# Altium footprint library Passive.PcbLib: 41 footprints (part 1 of 3)
Each footprint in its own frame and in the unit in brackets; x right, y up, seen from the top. Pads: shape width x height; smd on the part's side, far side on the other; paste and mask are expansions set on the pad; w line width, h text height; cw(c..) or ccw(c..) is an arc to the next point about the centre after c.
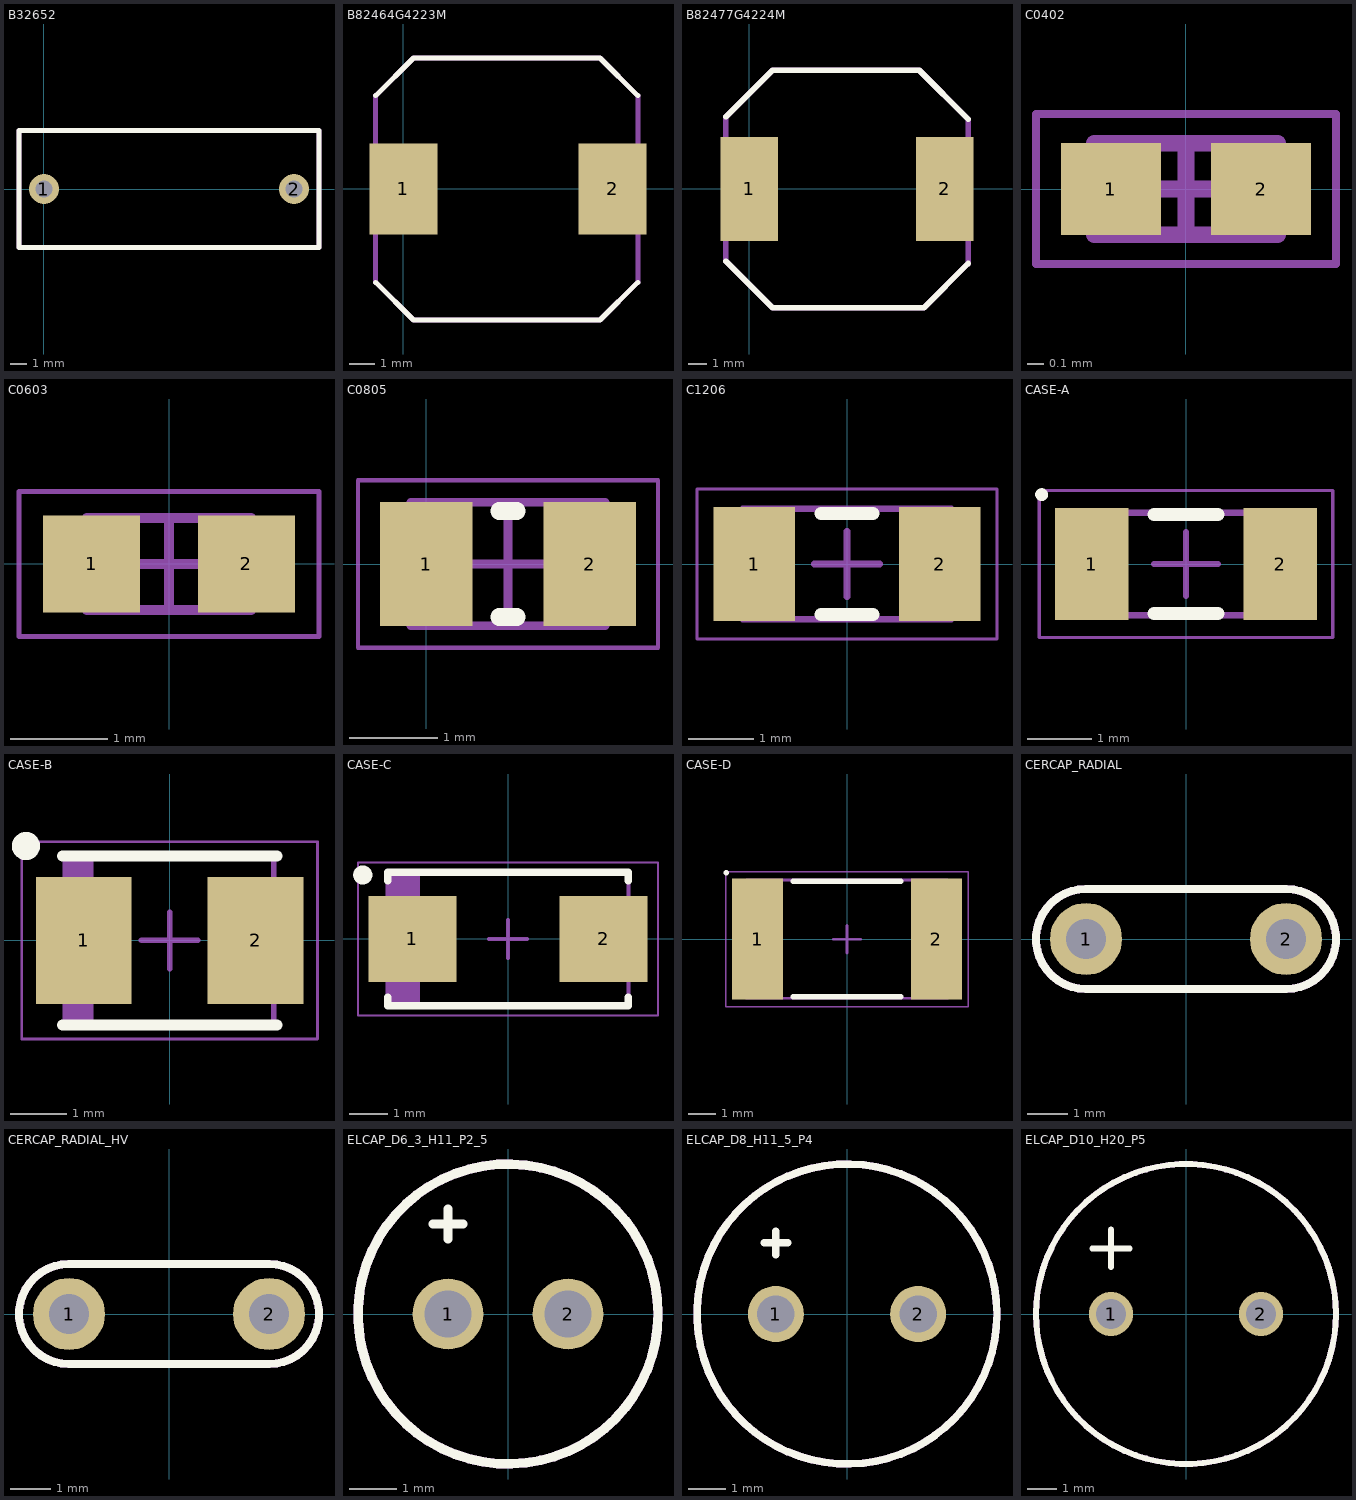
[diagram p0: the footprints below, top view; thin cyan lines are the x and y axes]

## B32652 [mm]
pads (2):
  round 1.8 hole 1: 1(0,0) 2(15,0)
Top Overlay:
  lines w0.3: -1.5,-3.5 -1.5,3.5 16.5,3.5 16.5,-3.5 -1.5,-3.5
TopAssy:
  lines w0.3: -1.5,-3.5 16.5,-3.5 16.5,3.5 -1.5,3.5 -1.5,-3.5
3D body "User Library-B32652A_5x10_5x18.step": height 10.6, standoff -2.9, extent -1.6,-2.5 16.4,2.5

## B82464G4223M [mm]
pads (2):
  rect 2.7x3.6 smd: 1(0,0) 2(8.3,0)
Top Overlay:
  lines w0.2: -1.1,-3.7 0.4,-5.2 7.8,-5.2 9.3,-3.7 ; -1.1,3.7 0.4,5.2 7.8,5.2 9.3,3.7
TopAssy:
  lines w0.2: -1.1,-3.7 0.4,-5.2 7.8,-5.2 9.3,-3.7 9.3,3.7 7.8,5.2 0.4,5.2 -1.1,3.7 -1.1,-3.7
3D body "User Library-B82464G4.step": height 4.81, standoff 0, extent -1.1,-5.2 9.3,5.2

## B82477G4224M [mm]
pads (2):
  rect 3.1x5.6 smd: 1(0,0) 2(10.5,0)
Top Overlay:
  lines w0.3: -1.25,-3.875 1.25,-6.375 9.375,-6.375 11.75,-4 ; -1.25,3.875 1.25,6.375 9.125,6.375 11.75,3.75
TopAssy:
  lines w0.3: -1.25,-3.875 1.25,-6.375 9.375,-6.375 11.75,-4 11.75,3.75 9.125,6.375 1.25,6.375 -1.25,3.875 -1.25,-3.875
3D body "User Library-b82477g4.step": height 8, standoff 0, extent -1.3,-6.4 11.5,6.4

## C0402 [mm]
height 0.4
pads (2):
  rect 0.6x0.55 smd: 1(-0.45,0) 2(0.45,0)
TopAssy:
  lines w0.1: -0.55,-0.275 -0.55,0.275 0.55,0.275 0.55,-0.275 -0.55,-0.275
Mechanical 15:
  lines w0.05: -0.9,-0.45 -0.9,0.45 0.9,0.45 0.9,-0.45 -0.9,-0.45
  lines w0.1: -0.275,0 0.275,0 ; 0,-0.275 0,0.275
3D body: height 0.4, standoff 0, extent -0.35,-0.275 0.35,0.275
3D body: height 0.4, standoff 0, extent -0.55,-0.275 -0.35,0.275
3D body: height 0.4, standoff 0, extent 0.35,-0.275 0.55,0.275

## C0603 [mm]
height 0.5
pads (2):
  rect 1x1 smd: 1(-0.8,0) 2(0.8,0)
TopAssy:
  lines w0.1: -0.85,-0.475 0.85,-0.475 0.85,0.475 -0.85,0.475 -0.85,-0.475
Mechanical 15:
  lines w0.05: -1.55,-0.75 1.55,-0.75 1.55,0.75 -1.55,0.75 -1.55,-0.75
  lines w0.1: -0.475,0 0.475,0 ; 0,-0.475 0,0.475
3D body: height 0.5, standoff 0, extent 0.55,-0.475 0.85,0.475
3D body: height 0.5, standoff 0, extent -0.85,-0.475 -0.55,0.475
3D body: height 0.5, standoff 0, extent -0.55,-0.475 0.55,0.475

## C0805 [mm]
pads (2):
  rect 1.05x1.4 smd: 1(0,0) 2(1.85,0)
Top Overlay:
  lines w0.2: 0.825,-0.6 1.025,-0.6 ; 0.825,0.6 1.025,0.6
TopAssy:
  lines w0.1: -0.175,-0.7 2.025,-0.7 2.025,0.7 -0.175,0.7 -0.175,-0.7
Mechanical 15:
  lines w0.05: -0.775,-0.95 2.625,-0.95 2.625,0.95 -0.775,0.95 -0.775,-0.95
  lines w0.1: 0.425,0 1.425,0 ; 0.925,-0.5 0.925,0.5
3D body "SW3dPS-0805 SMD Capacitor.STEP": height 0.78, standoff 0, extent -0.05,-0.625 1.95,0.625

## C1206 [mm]
height 0.6
pads (2):
  rect 1.25x1.75 smd: 1(-1.425,0) 2(1.425,0)
Top Overlay:
  lines w0.2: -0.4,-0.775 0.4,-0.775 ; -0.4,0.775 0.4,0.775
TopAssy:
  lines w0.1: -1.6,-0.85 -1.6,0.85 1.6,0.85 1.6,-0.85 -1.6,-0.85
Mechanical 15:
  lines w0.05: -2.3,-1.15 -2.3,1.15 2.3,1.15 2.3,-1.15 -2.3,-1.15
  lines w0.1: -0.5,0 0.5,0 ; 0,-0.5 0,0.5
3D body: height 0.6, standoff 0, extent -1.6,-0.85 -1.1,0.85
3D body: height 0.6, standoff 0, extent 1.1,-0.85 1.6,0.85
3D body: height 0.6, standoff 0, extent -1.1,-0.85 1.1,0.85

## CASE-A [mm] "Танталовый, тип А"
height 0.6
pads (2):
  rect 1.15x1.75 smd: 1(-1.475,0) 2(1.475,0)
Top Overlay:
  circle w0.1: c-2.262,1.087 r0.05
  lines w0.2: -0.5,-0.775 0.5,-0.775 ; -0.5,0.775 0.5,0.775
TopAssy:
  lines w0.1: -1.6,-0.8 -1.6,0.8 1.6,0.8 1.6,-0.8 -1.6,-0.8
Mechanical 15:
  lines w0.05: -2.3,-1.15 -2.3,1.15 2.3,1.15 2.3,-1.15 -2.3,-1.15
  lines w0.1: -0.5,0 0.5,0 ; 0,-0.5 0,0.5
3D body: height 0.6, standoff 0, extent -1.6,-0.8 -1.1,0.8
3D body: height 0.6, standoff 0, extent 1.1,-0.8 1.6,0.8
3D body: height 0.6, standoff 0, extent -1.1,-0.8 1.1,0.8

## CASE-B [mm] "Molded Capacitor, 2-Leads, Body 3,60x2,90mm, IPC Medium Density"
height 2
pads (2):
  rect 1.7x2.25 smd: 1(-1.525,0) 2(1.525,0)
Top Overlay:
  circle w0.25: c-2.55,1.675 r0.125
  lines w0.2: -1.9,-1.5 1.9,-1.5 ; -1.9,1.5 1.9,1.5
TopAssy:
  rectangle: -1.85,-1.5 -1.352,1.5
  lines w0.1: -1.85,-1.5 1.85,-1.5 1.85,1.5 -1.85,1.5 -1.85,-1.5
Mechanical 15:
  lines w0.05: -2.625,-1.75 2.625,-1.75 2.625,1.75 -2.625,1.75 -2.625,-1.75
  lines w0.1: -0.5,0 0.5,0 ; 0,-0.5 0,0.5
3D body "CHIP_TANT_B.step": height 2, standoff 0, extent -2.07,-1.5 2.07,1.5

## CASE-C [mm]
height 2.5
pads (2):
  rect 2.3x2.25 smd: 1(-2.5,0) 2(2.5,0)
Top Overlay:
  circle w0.25: c-3.8,1.675 r0.125
  lines w0.2: -3.15,-1.525 -3.15,-1.75 3.15,-1.75 3.15,-1.525 ; -3.15,1.525 -3.15,1.75 3.15,1.75 3.15,1.525
TopAssy:
  rectangle: -3.15,-1.75 -2.303,1.75
  lines w0.1: -3.15,-1.75 3.15,-1.75 3.15,1.75 -3.15,1.75 -3.15,-1.75
Mechanical 15:
  lines w0.05: -3.925,-2 3.925,-2 3.925,2 -3.925,2 -3.925,-2
  lines w0.1: -0.5,0 0.5,0 ; 0,-0.5 0,0.5
3D body "CHIP_TANT_C.step": height 2.5, standoff 0, extent -3.37,-1.75 3.37,1.75

## CASE-D [mm]
height 2.8
pads (2):
  rect 1.85x4.4 smd: 1(-3.25,0) 2(3.25,0)
Top Overlay:
  circle w0.1: c-4.387,2.412 r0.05
  lines w0.2: -1.95,-2.1 1.95,-2.1 ; -1.95,2.1 1.95,2.1
TopAssy:
  lines w0.1: -3.65,-2.15 -3.65,2.15 3.65,2.15 3.65,-2.15 -3.65,-2.15
Mechanical 15:
  lines w0.05: -4.4,-2.45 -4.4,2.45 4.4,2.45 4.4,-2.45 -4.4,-2.45
  lines w0.1: -0.5,0 0.5,0 ; 0,-0.5 0,0.5
3D body: height 2.8, standoff 0, extent -3.65,-2.15 -2.35,2.15
3D body: height 2.8, standoff 0, extent 2.35,-2.15 3.65,2.15
3D body: height 2.8, standoff 0, extent -2.35,-2.15 2.35,2.15

## CERCAP_RADIAL [mm]
pads (2):
  round 1.8 hole 1: 1(-2.5,0) 2(2.5,0)
Top Overlay:
  lines w0.2: -2.5,-1.25 cw(c-2.5,0) -2.5,1.25 2.5,1.25 cw(c2.5,0) 2.5,-1.25 -2.5,-1.25
TopAssy:
  lines w0.2: -2.5,-1.25 cw(c-2.5,0) -2.5,1.25 2.5,1.25 cw(c2.5,0) 2.5,-1.25 -2.5,-1.25
3D body "Деталь1.STEP": height 6.61, standoff -2.49, extent -2.795,-1.34 2.795,1.2

## CERCAP_RADIAL_HV [mm]
pads (2):
  round 1.8 hole 1: 1(-2.5,0) 2(2.5,0)
Top Overlay:
  lines w0.2: -2.5,-1.25 cw(c-2.5,0) -2.5,1.25 2.5,1.25 cw(c2.5,0) 2.5,-1.25 -2.5,-1.25
TopAssy:
  lines w0.2: -2.5,-1.25 cw(c-2.5,0) -2.5,1.25 2.5,1.25 cw(c2.5,0) 2.5,-1.25 -2.5,-1.25
3D body "User Library-TDK_CAP_CK45_.step": height 12.5, standoff -5, extent -5.496,-2.6 5.496,2.4

## ELCAP_D6_3_H11_P2_5 [mm]
pads (2):
  round 1.5 hole 1: 1(-1.27,0) 2(1.27,0)
Top Overlay:
  circle w0.2: c0,0 r3.175
  lines w0.2: -1.587,1.905 -0.953,1.905 ; -1.27,1.587 -1.27,2.222
TopAssy:
  circle w0.2: c0,0 r3.175
  lines w0.2: -1.905,0 -0.635,0 ; -1.27,-0.635 -1.27,0.635
3D body "SW3dPS-Cap electro 6.3x11x2.5mm.STEP": height 11.53, standoff -3.01, extent -3.175,-3.175 3.176,3.176

## ELCAP_D8_H11_5_P4 [mm]
pads (2):
  round 1.5 hole 1: 1(-1.905,0) 2(1.905,0)
Top Overlay:
  circle w0.2: c0,0 r4.016
  lines w0.2: -2.222,1.905 -1.587,1.905 ; -1.905,1.587 -1.905,2.222
TopAssy:
  circle w0.2: c0,0 r4.016
  lines w0.2: -2.54,0 -1.27,0 ; -1.905,-0.635 -1.905,0.635
3D body "SW3dPS-Cap electro 8x11.5x3.5mm.STEP": height 12.03, standoff -3.48, extent -4.025,-4.025 4.026,4.026

## ELCAP_D10_H20_P5 [mm]
pads (2):
  round 1.5 hole 1: 1(-2.54,0) 2(2.54,0)
Top Overlay:
  circle w0.2: c0,0 r5.08
  lines w0.2: -3.175,2.222 -1.905,2.222 ; -2.54,1.587 -2.54,2.857
TopAssy:
  circle w0.2: c0,0 r5.08
  lines w0.2: -3.175,0 -1.905,0 ; -2.54,-0.635 -2.54,0.635
3D body "User Library-Cap electro 10x20x5_0mm.STEP": height 20.53, standoff -3.74, extent -5.025,-5.025 5.026,5.026